# EAGLE library part CYBLE-222005-00 (library PatternAgents-Cypress)
Cypress PSoC® 4 - Programmable System on Chip, Cortex-M0 Based , Bluetooth Radio Module http://www.cypress.com/?mpn=CYBLE-222005-00 LBR Source: http://www.patternagents.com THIS SOFTWARE IS PROVIDED BY THE CONTRIBUTORS "AS IS" AND WITHOUT ANY EXPRESS OR IMPLIED WARRANTIES, INCLUDING, BUT NOT LIMITED TO, THE IMPLIED WARRANTIES OF MERCHANTABILITY AND FITNESS FOR A PARTICULAR PURPOSE ARE DISCLAIMED. IN NO EVENT SHALL THE COPYRIGHT OWNER OR CONTRIBUTORS BE LIABLE FOR ANY DIRECT, INDIRECT, INCIDENTAL, SPECIAL, EXEMPLARY, OR CONSEQUENTIAL DAMAGES (INCLUDING, BUT NOT LIMITED TO, PROCUREMENT OF SUBSTITUTE GOODS OR SERVICES; LOSS OF USE, DATA, OR PROFITS; OR BUSINESS INTERRUPTION) HOWEVER CAUSED AND ON ANY THEORY OF LIABILITY, WHETHER IN CONTRACT, STRICT LIABILITY, OR TORT (INCLUDING NEGLIGENCE OR OTHERWISE) ARISING IN ANY WAY OUT OF THE USE OF THIS SOFTWARE, EVEN IF ADVISED OF THE POSSIBILITY OF SUCH DAMAGE.
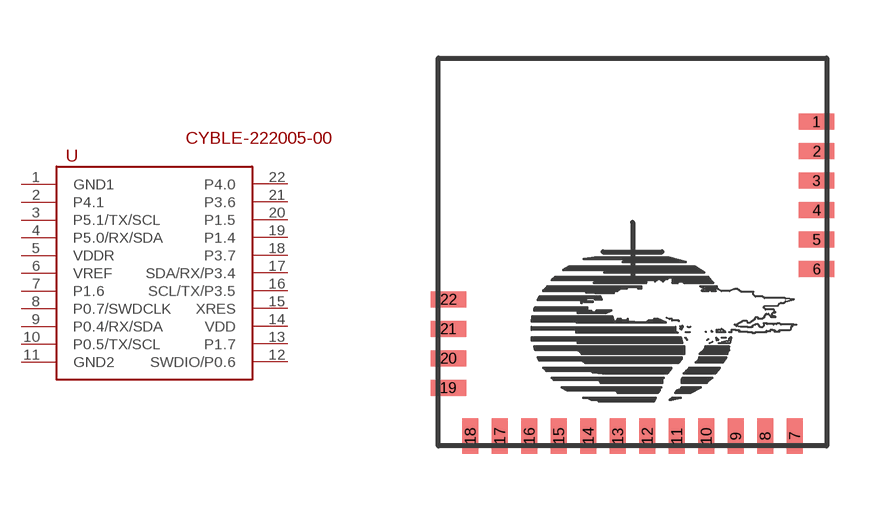
[diagram p33: symbol with the pads of PROC-BLE-10MM-22; footprint PROC-BLE-10MM-22]

Designator prefix U

## CYBLE-222005-00  [PROC-BLE-10MM-22]
1  GND1  pwr
2  P4.1
3  P5.1/TX/SCL
4  P5.0/RX/SDA
5  VDDR
6  VREF
7  P1.6
8  P0.7/SWDCLK
9  P0.4/RX/SDA
10  P0.5/TX/SCL
11  GND2
12  SWDIO/P0.6
13  P1.7
14  VDD
15  XRES
16  SCL/TX/P3.5
17  SDA/RX/P3.4
18  P3.7
19  P1.4
20  P1.5
21  P3.6
22  P4.0

## Footprint PROC-BLE-10MM-22 (pad centres in mm)
Cypress PSoC® 4 - Programmable System on Chip, Cortex-M0 Based http://www.cypress.com/?mpn=CYBLE LBR Source: http://www.patternagents.com THIS SOFTWARE IS PROVIDED BY THE CONTRIBUTORS "AS IS" AND WITHOUT ANY EXPRESS OR IMPLIED WARRANTIES, INCLUDING, BUT NOT LIMITED TO, THE IMPLIED WARRANTIES OF MERCHANTABILITY AND FITNESS FOR A PARTICULAR PURPOSE ARE DISCLAIMED. IN NO EVENT SHALL THE COPYRIGHT OWNER OR CONTRIBUTORS BE LIABLE FOR ANY DIRECT, INDIRECT, INCIDENTAL, SPECIAL, EXEMPLARY, OR CONSEQUENTIAL DAMAGES (INCLUDING, BUT NOT LIMITED TO, PROCUREMENT OF SUBSTITUTE GOODS OR SERVICES; LOSS OF USE, DATA, OR PROFITS; OR BUSINESS INTERRUPTION) HOWEVER CAUSED AND ON ANY THEORY OF LIABILITY, WHETHER IN CONTRACT, STRICT LIABILITY, OR TORT (INCLUDING NEGLIGENCE OR OTHERWISE) ARISING IN ANY WAY OUT OF THE USE OF THIS SOFTWARE, EVEN IF ADVISED OF THE POSSIBILITY OF SUCH DAMAGE.
smd 0.91 x 0.41: 1 4.745,3.36; 2 4.745,2.6; 3 4.745,1.84; 4 4.745,1.08; 5 4.745,0.32; 6 4.745,-0.44; 19 -4.745,-3.5; 20 -4.745,-2.74; 21 -4.745,-1.98; 22 -4.745,-1.22
smd 0.41 x 0.91: 7 4.18,-4.745; 8 3.42,-4.745; 9 2.66,-4.745; 10 1.9,-4.745; 11 1.14,-4.745; 12 0.38,-4.745; 13 -0.38,-4.745; 14 -1.14,-4.745; 15 -1.9,-4.745; 16 -2.66,-4.745; 17 -3.42,-4.745; 18 -4.18,-4.745